# Altium schematic symbol library USB-M-A.SchLib: 1 symbol
Pins are listed as number, name and electrical type; pins without a type are passive.

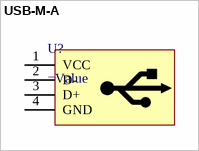
[diagram p0: symbol USB-M-A]

## USB-M-A
designator U?
=Description
pins: 1 VCC, 2 D-, 3 D+, 4 GND